# Altium footprint library 104224-0820.PcbLib: 1 footprints
Each footprint in its own frame and in the unit in brackets; x right, y up, seen from the top. Pads: shape width x height; smd on the part's side, far side on the other; paste and mask are expansions set on the pad; w line width, h text height; cw(c..) or ccw(c..) is an arc to the next point about the centre after c.
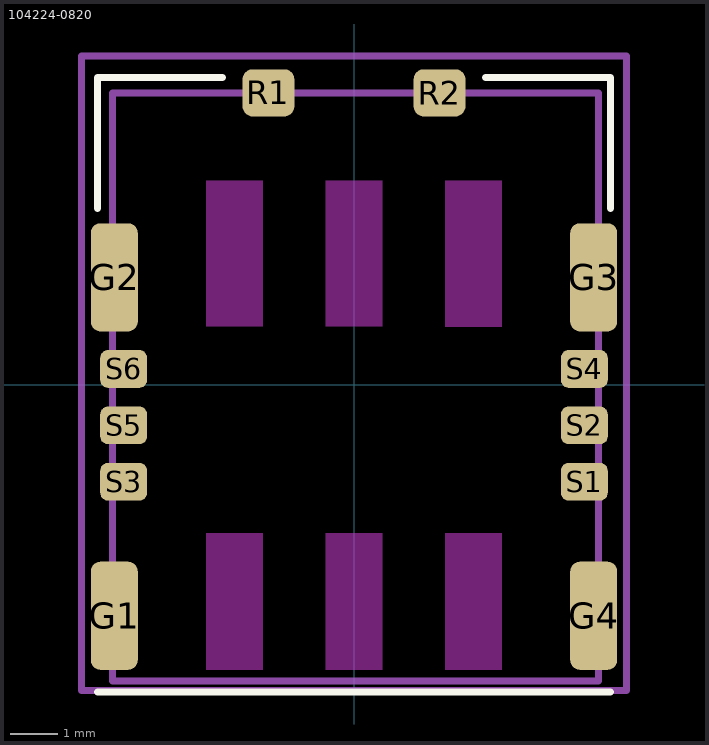
[diagram p0: the footprint, top view; thin cyan lines are the x and y axes]

## 104224-0820 [mm]
pads (12):
  rrect40% 1x2.3 smd: G1(-5.1,-4.914) G2(-5.1,2.287) G3(5.1,2.287) G4(5.1,-4.914)
  rrect40% 1.1x1 smd: R1(-1.82,6.211) R2(1.82,6.211)
  rrect40% 1x0.8 smd: S1(4.9,-2.064) S2(4.9,-0.864) S3(-4.9,-2.064) S4(4.9,0.336) S5(-4.9,-0.864) S6(-4.9,0.336)
Top Overlay:
  lines w0.15: -5.461,-6.54 5.461,-6.54 ; -5.461,3.746 -5.461,6.54 -2.794,6.54 ; 2.794,6.54 5.461,6.54 5.461,3.746
Keep-Out Layer:
  region: -0.601,-3.163 0.6,-3.163 0.6,-6.063 -0.601,-6.063
  region: -0.601,-3.163 0.6,-3.163 0.6,-6.063 -0.601,-6.063
  region: -3.146,-3.163 -1.94,-3.163 -1.94,-6.063 -3.146,-6.063
  region: -3.144,-3.163 -1.94,-3.163 -1.94,-6.063 -3.144,-6.063
  region: 1.943,-3.163 3.14,-3.163 3.14,-6.063 1.943,-6.063
  region: 1.941,-3.163 3.14,-3.163 3.14,-6.063 1.941,-6.063
  region: -0.601,4.336 0.6,4.336 0.6,1.25 -0.601,1.25
  region: -0.601,4.336 0.6,4.336 0.6,1.249 -0.601,1.249
  region: -3.142,4.336 -1.94,4.336 -1.94,1.242 -3.142,1.242
  region: -3.143,4.336 -1.94,4.336 -1.94,1.243 -3.143,1.243
  region: 1.94,4.336 3.14,4.336 3.14,1.238 1.94,1.238
  region: 1.94,4.336 3.14,4.336 3.14,1.237 1.94,1.237
  region: -0.601,-3.163 0.6,-3.163 0.6,-6.063 -0.601,-6.063
  region: -0.601,-3.163 0.6,-3.163 0.6,-6.063 -0.601,-6.063
  region: -3.146,-3.163 -1.94,-3.163 -1.94,-6.063 -3.146,-6.063
  region: -3.144,-3.163 -1.94,-3.163 -1.94,-6.063 -3.144,-6.063
  region: 1.943,-3.163 3.14,-3.163 3.14,-6.063 1.943,-6.063
  region: 1.941,-3.163 3.14,-3.163 3.14,-6.063 1.941,-6.063
  region: -0.601,4.336 0.6,4.336 0.6,1.25 -0.601,1.25
  region: -0.601,4.336 0.6,4.336 0.6,1.249 -0.601,1.249
  region: -3.142,4.336 -1.94,4.336 -1.94,1.242 -3.142,1.242
  region: -3.143,4.336 -1.94,4.336 -1.94,1.243 -3.143,1.243
  region: 1.94,4.336 3.14,4.336 3.14,1.238 1.94,1.238
  region: 1.94,4.336 3.14,4.336 3.14,1.237 1.94,1.237
  region: -0.601,-3.163 0.6,-3.163 0.6,-6.063 -0.601,-6.063
  region: -0.601,-3.163 0.6,-3.163 0.6,-6.063 -0.601,-6.063
  region: -3.146,-3.163 -1.94,-3.163 -1.94,-6.063 -3.146,-6.063
  region: -3.144,-3.163 -1.94,-3.163 -1.94,-6.063 -3.144,-6.063
  region: 1.943,-3.163 3.14,-3.163 3.14,-6.063 1.943,-6.063
  region: 1.941,-3.163 3.14,-3.163 3.14,-6.063 1.941,-6.063
  region: -0.601,4.336 0.6,4.336 0.6,1.25 -0.601,1.25
  region: -0.601,4.336 0.6,4.336 0.6,1.249 -0.601,1.249
  region: -3.142,4.336 -1.94,4.336 -1.94,1.242 -3.142,1.242
  region: -3.143,4.336 -1.94,4.336 -1.94,1.243 -3.143,1.243
  region: 1.94,4.336 3.14,4.336 3.14,1.238 1.94,1.238
  region: 1.94,4.336 3.14,4.336 3.14,1.237 1.94,1.237
Top Assembly:
  lines w0.15: -5.143,-6.3 5.207,-6.3 5.207,-3.111 5.207,6.211 -5.143,6.211 -5.143,-6.3
Top Courtyard:
  lines w0.15: -5.8,-6.5 -5.8,7 5.8,7 5.8,-6.5 -5.8,-6.5
3D body "1042240820.stp": height 1.09, standoff -0.02, extent -5.143,-6.339 5.207,6.211